# Altium footprint library PCB_Smart_FAN_Controller_RevA.PcbLib: 18 footprints (part 2 of 2)
Each footprint in its own frame and in the unit in brackets; x right, y up, seen from the top. Pads: shape width x height; smd on the part's side, far side on the other; paste and mask are expansions set on the pad; w line width, h text height; cw(c..) or ccw(c..) is an arc to the next point about the centre after c.
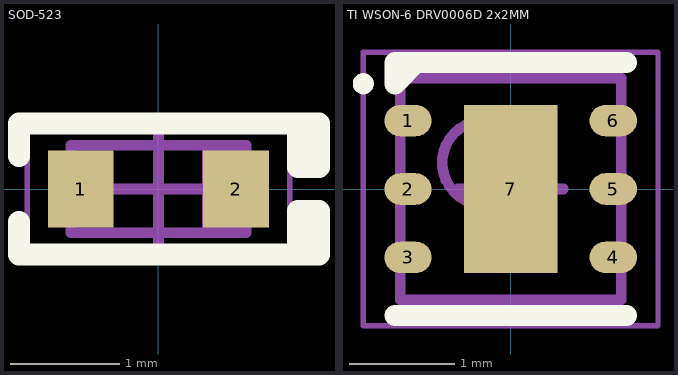
[diagram p1: the footprints below, top view; thin cyan lines are the x and y axes]

## SOD-523 [mm] "Molded Diode, 2-Leads, Body 1.60x0.80mm, IPC Medium Density"
height 0.77
pads (2):
  rect 0.6x0.7 smd: 1(-0.71,0) 2(0.71,0)
Top Overlay:
  lines w0.2: -1.275,-0.3 -1.275,-0.6 1.469,-0.6 1.469,-0.2 1.275,-0.2 1.275,-0.6 ; -1.275,0.3 -1.275,0.6 1.469,0.6 1.469,0.2 1.275,0.2 1.275,0.6
Mechanical 13:
  rectangle: 0.4,-0.4 0.8,0.4
  lines w0.1: -0.8,-0.4 -0.8,0.4 0.8,0.4 0.8,-0.4 -0.8,-0.4
Mechanical 15:
  lines w0.05: -1.2,-0.6 1.2,-0.6 1.2,0.6 -1.2,0.6 -1.2,-0.6
  lines w0.1: -0.5,0 0.5,0 ; 0,-0.5 0,0.5
3D body "SOD-523.step": height 0.82, standoff -0.03, extent -0.8,-0.4 0.8,0.4

## TI WSON-6 DRV0006D 2x2MM [mm] "SON, 6-Leads, Body 2.00x2.00mm, Pitch 0.65mm, Thermal Pad 1.60x0.89mm, IPC Medium Density"
height 0.8
pads (7):
  oval 0.45x0.3 smd: 1(-0.975,0.65) 2(-0.975,0) 3(-0.975,-0.65) 4(0.975,-0.65) 5(0.975,0) 6(0.975,0.65)
  rect 0.89x1.6 smd: 7(0,0)
Top Overlay:
  circle w0.1: c-1.4,1 r0.05
  lines w0.2: -1.1,-1.2 1.1,-1.2 ; -0.9,1.2 -1.1,1 -1.1,1.2 1.1,1.2
Mechanical 13:
  circle w0.1: c-0.25,0.25 r0.4
  lines w0.1: -1.05,-1.05 -1.05,1.05 1.05,1.05 1.05,-1.05 -1.05,-1.05
Mechanical 15:
  lines w0.05: -1.4,-1.3 -1.4,1.3 1.4,1.3 1.4,-1.3 -1.4,-1.3
  lines w0.1: -0.5,0 0.5,0 ; 0,-0.5 0,0.5
3D body "TI SON-6 DRV0006D 2x2MM.step": height 0.8, standoff 0, extent -1.051,-1.05 1.051,1.05